# EAGLE library part MOLEX_0470230001 (library simcard)
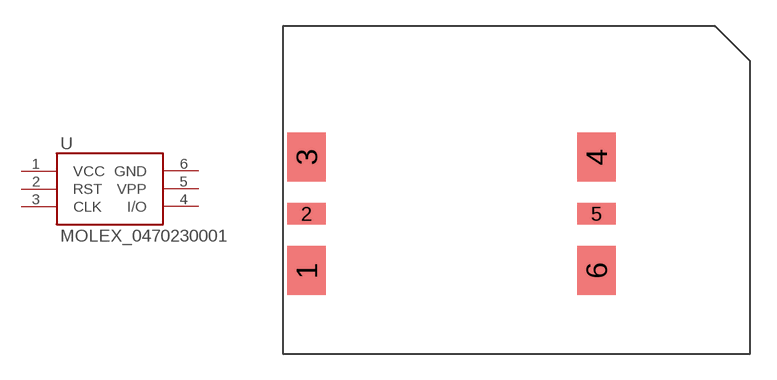
[diagram p0: symbol with the pads of MOLEX_0470230001; footprint MOLEX_0470230001]

Designator prefix -

## MOLEX_0470230001  [MOLEX_0470230001]
1  VCC
2  RST
3  CLK
4  I/O
5  VPP
6  GND

## Footprint MOLEX_0470230001 (pad centres in mm)
smd 2.2 x 2.8: 1 1.36,4.75; 3 1.36,11.23; 4 17.9,11.23; 6 17.9,4.75
smd 2.2 x 1.2: 2 1.36,7.99; 5 17.9,7.99